# Altium schematic symbol library Schlib1.SchLib: 26 symbols
Pins are listed as number, name and electrical type; pins without a type are passive.

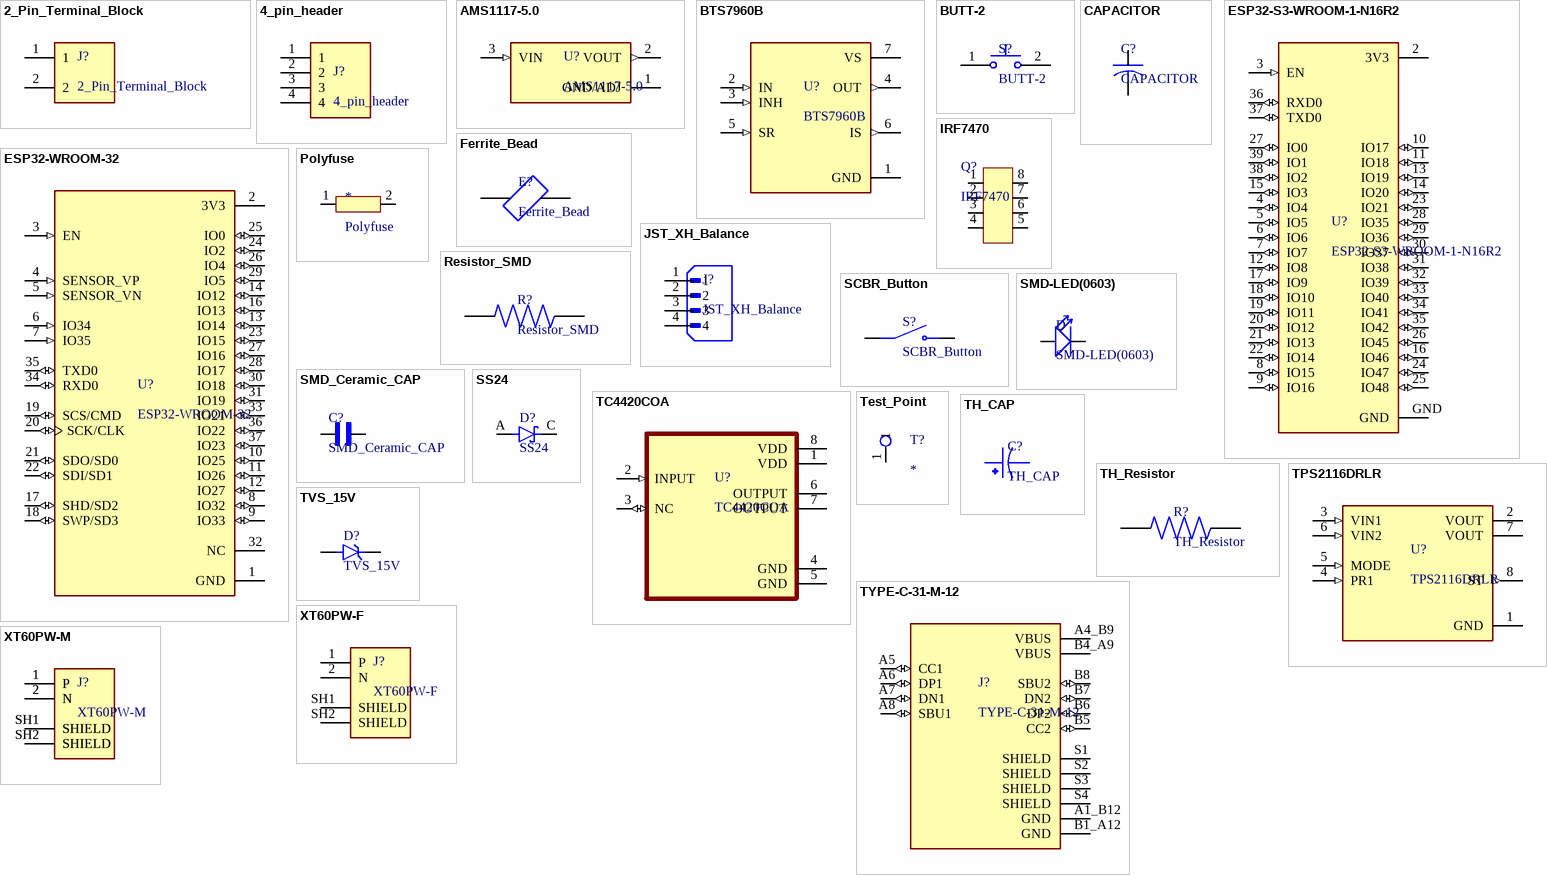
[diagram p0: symbols 2_Pin_Terminal_Block to XT60PW-M]

## 2_Pin_Terminal_Block
designator J?
2 Pin Terminal Block 5mm Pitch; MF: Handson Technology; MP: KF301-2P; SnapEDA_Link: https://www.snapeda.com/parts/KF301-2P/Handson+Technology/view-part/?ref=snap; Package: None; Value: *; Check_prices: https://www.snapeda.com/parts/KF301-2P/Handson+Technology/view-part/?ref=eda
footprint HANDSON_KF301-2P
footprint XT60PW-M
footprint 2_Pin_Terminal_Block
pins: 1, 2

## 4_pin_header
designator J?
MTA-100 HEADER - TIN, 04P MTA100 HDR ASSY SQ R/A POL | TE Connectivity 640455-4; SnapEDA_Link: https://www.snapeda.com/parts/640455-4/TE+Connectivity+AMP+Connectors/view-part/?ref=snap; Package: None; Value: *; MF: TE Connectivity; MP: 640455-4; Check_prices: https://www.snapeda.com/parts/640455-4/TE+Connectivity+AMP+Connectors/view-part/?ref=eda
footprint TE_640455-4
footprint 4_pin_header
footprint JST_XH_Balance
footprint JST_XH_Balance
footprint JST_XH_Balance
pins: 1, 2, 3, 4

## AMS1117-5.0
designator U?
1A LOW DROPOUT VOLTAGE REGULATOR; MF: ams; MP: AMS1117-5.0; Package: SOT-223 Seeed Technology; SnapEDA_Link: https://www.snapeda.com/parts/AMS1117-5.0/ams/view-part/?ref=snap; Check_prices: https://www.snapeda.com/parts/AMS1117-5.0/ams/view-part/?ref=eda; Availability: Not in stock; Value: *; Price: None
footprint SOT229P700X180-4N
footprint AMS1117-5.0
footprint AMS1117-5.0
pins: 1 GND/ADJ (power), 2 VOUT (out), 3 VIN (in)

## BTS7960B
designator U?
Half Bridge Driver DC Motors, General Purpose DMOS PG-TO263-7-1; MF: Infineon; SnapEDA_Link: https://www.snapeda.com/parts/BTS7960B/Infineon/view-part/?ref=snap; Package: TO-263 Infineon; Value: *; MP: BTS7960B; Check_prices: https://www.snapeda.com/parts/BTS7960B/Infineon/view-part/?ref=eda
footprint DPAK127P1490X440-8N
footprint BTS7960B
footprint BTS7960B
pins: 1 GND (power), 2 IN (in), 3 INH (in), 4 OUT (out), 5 SR (in), 6 IS (out), 7 VS (power)

## BUTT-2
designator S?
Tactile Switches MINI PUSH BUTTON SWITCH 2-PIN QTY. 4; MF: Gravitech; SnapEDA_Link: https://www.snapeda.com/parts/BUTT-2/Gravitech/view-part/?ref=snap; Package: None; Value: *; MP: BUTT-2; Check_prices: https://www.snapeda.com/parts/BUTT-2/Gravitech/view-part/?ref=eda
footprint SW_BUTT-2
footprint SW_BUTT-2
footprint SW_BUTT-2
pins: 1, 2

## CAPACITOR
designator C?
<B>CAPACITOR</B>, American symbol; Package: None; Price: None; Value: *; MP: CAPACITOR; Availability: Unavailable
footprint C0603K
footprint Capacitor_Bipolar-SMD
footprint Capacitor_Bipolar-SMD
footprint Capacitor_Bipolar-SMD
footprint Capacitor_Bipolar-SMD
pins: 1, 2

## ESP32-S3-WROOM-1-N16R2
designator U?
Bluetooth, WiFi 802.11b/g/n, Bluetooth v5.0 Transceiver Module 2.4GHz PCB Trace Surface Mount; MF: Espressif Systems; MP: ESP32S3WROOM1N16R2; SnapEDA_Link: https://www.snapeda.com/parts/ESP32S3WROOM1N16R2/Espressif+Systems/view-part/?ref=snap; Package: NON STANDARD Espressif Systems; Value: *; Check_prices: https://www.snapeda.com/parts/ESP32S3WROOM1N16R2/Espressif+Systems/view-part/?ref=eda
footprint XCVR_ESP32-S3-WROOM-1-N16R2
footprint ESP32-S3-WROOM-1-N16R2
footprint ESP32-S3-WROOM-1-N16R2
pins: 2 3V3 (power), 3 EN (in), 4 IO4 (io), 5 IO5 (io), 6 IO6 (io), 7 IO7 (io), 8 IO15 (io), 9 IO16 (io), 10 IO17 (io), 11 IO18 (io), 12 IO8 (io), 13 IO19 (io), 14 IO20 (io), 15 IO3 (io), 16 IO46 (io), 17 IO9 (io), 18 IO10 (io), 19 IO11 (io), 20 IO12 (io), 21 IO13 (io), 22 IO14 (io), 23 IO21 (io), 24 IO47 (io), 25 IO48 (io), 26 IO45 (io), 27 IO0 (io), 28 IO35 (io), 29 IO36 (io), 30 IO37 (io), 31 IO38 (io), 32 IO39 (io), 33 IO40 (io), 34 IO41 (io), 35 IO42 (io), 36 RXD0 (io), 37 TXD0 (io), 38 IO2 (io), 39 IO1 (io), GND (power)

## ESP32-WROOM-32
designator U?
Bluetooth, WiFi 802.11b/g/n, Bluetooth v4.2 +EDR, Class 1, 2 and 3 Transceiver Module 2.4GHz ~ 2.5GHz Antenna Not Included, U.FL Surface Mount; MF: Espressif Systems; Price: None; Availability: In Stock; MP: ESP32-WROOM-32; Package: Module Espressif Systems; SnapEDA_Link: https://www.snapeda.com/parts/ESP32-WROOM-32/Espressif+Systems/view-part/?ref=snap; Check_prices: https://www.snapeda.com/parts/ESP32-WROOM-32/Espressif+Systems/view-part/?ref=eda; Value: *; Purchase-URL: https://pricing.snapeda.com/search/part/ESP32-WROOM-32/?ref=eda
footprint MODULE_ESP32-WROOM-32
pins: 1 GND (power), 2 3V3 (power), 3 EN (in), 4 SENSOR_VP (in), 5 SENSOR_VN (in), 6 IO34 (in), 7 IO35 (in), 8 IO32 (io), 9 IO33 (io), 10 IO25 (io), 11 IO26 (io), 12 IO27 (io), 13 IO14 (io), 14 IO12 (io), 16 IO13 (io), 17 SHD/SD2 (io), 18 SWP/SD3 (io), 19 SCS/CMD (io), 20 SCK/CLK (io), 21 SDO/SD0 (io), 22 SDI/SD1 (io), 23 IO15 (io), 24 IO2 (io), 25 IO0 (io), 26 IO4 (io), 27 IO16 (io), 28 IO17 (io), 29 IO5 (io), 30 IO18 (io), 31 IO19 (io), 32 NC, 33 IO21 (io), 34 RXD0 (io), 35 TXD0 (io), 36 IO22 (io), 37 IO23 (io)

## Ferrite_Bead
designator E?
120 Ohms @ 100 MHz 1 Power, Signal Line Ferrite Bead 0603 (1608 Metric) 700mA 200mOhm; MF: Laird; MP: LI0603G121R-10; Purchase-URL: https://pricing.snapeda.com/search/part/LI0603G121R-10/?ref=eda; SnapEDA_Link: https://www.snapeda.com/parts/LI0603G121R-10/Laird/view-part/?ref=snap; Package: 0603 Laird; Price: None; Value: *; Availability: In Stock; Check_prices: https://www.snapeda.com/parts/LI0603G121R-10/Laird/view-part/?ref=eda
footprint FB_LI0603G121R-10
footprint Ferrite_bead
footprint Ferrite_bead
pins: 1, 2

## IRF7470
designator Q?
footprint IRF7470
footprint IRF7470
pins: 1 (power), 2 (power), 3 (power), 4 (power), 5 (power), 6 (power), 7 (power), 8 (power)

## JST_XH_Balance
designator J?
Connector Header Through Hole 4 position 0.098 (2.50mm); MF: JST Sales; MP: B4B-XH-A(LF)(SN); SnapEDA_Link: https://www.snapeda.com/parts/B4B-XH-A(LF)(SN)/JST+Sales+America+Inc./view-part/?ref=snap; Package: None; Value: *; Check_prices: https://www.snapeda.com/parts/B4B-XH-A(LF)(SN)/JST+Sales+America+Inc./view-part/?ref=eda
footprint JST_B4B-XH-A(LF)(SN)
footprint JST_XH_Balance
footprint JST_XH_Balance
pins: 1, 2, 3, 4

## Polyfuse
designator *
footprint Polyfuse
footprint Polyfuse
pins: 1, 2

## Resistor_SMD
designator R?
1 kOhms Â±0.5% 0.063W, 1/16W Chip Resistor 0603 (1608 Metric) - Thin Film; MF: Susumu; MP: RR0816P-102-D; SnapEDA_Link: https://www.snapeda.com/parts/RR0816P-102-D/Susumu/view-part/?ref=snap; Package: 1608 Susumu; Value: *; Check_prices: https://www.snapeda.com/parts/RR0816P-102-D/Susumu/view-part/?ref=eda
footprint RESC1608X50N
footprint Resistor_SMD
footprint Resistor_SMD
pins: 1, 2

## SCBR_Button
designator S?
SPST 50mA @ 12VDC Top Actuated Round Button 160gf SMD Tactile Switches RoHS; MP: TS-1187A-B-A-B; Value: *; Price: None; Package: None; Availability: Unavailable
footprint SW_TS-1187A-B-A-B
pins: A COM, B COM, C NO, D NO

## SMD-LED(0603)
designator D
Blue LED Indication - Discrete 2.8V 0603 _1608 Metric_; MF: Everlight; MP: 19-217/BHC-ZL1M2RY/3T; Value: *; SnapEDA_Link: https://www.snapeda.com/parts/19-217/BHC-ZL1M2RY/3T/Everlight%20Electronics%20Co%20Ltd/view-part/105869/?ref=snap; Price: None; Availability: Unavailable; Package: 0603 Everlight
footprint LED-0603
footprint LED-0603
footprint LED-0603
pins: NEG, POS

## SMD_Ceramic_CAP
designator C?
10000 pF Â±5% 16V Ceramic Capacitor X7R 0805 (2012 Metric); MF: AVX; MP: 0805YC103J4T2A; SnapEDA_Link: https://www.snapeda.com/parts/0805YC103J4T2A/AVX/view-part/?ref=snap; Package: 2012 AVX; Value: *; Check_prices: https://www.snapeda.com/parts/0805YC103J4T2A/AVX/view-part/?ref=eda
footprint CAPC2012X94N
footprint SMD_Ceramic_CAP
footprint SMD_Ceramic_CAP
footprint SMD_Ceramic_CAP
pins: 1, 2

## SS24
designator D?
Diode Schottky 40V 2A Surface Mount DO-214AA (SMB); MF: ON Semiconductor; Package: DO-214AA ON Semiconductor; Price: None; Value: *; SnapEDA_Link: https://www.snapeda.com/parts/SS24/Onsemi/view-part/?ref=snap; MP: SS24; Availability: In Stock; Check_prices: https://www.snapeda.com/parts/SS24/Onsemi/view-part/?ref=eda
footprint DIOM5336X265N
footprint SS24
footprint SS24
pins: A, C K

## TC4420COA
designator U?
Microchip TC4420COA,MOSFET Power Driver 6A,4.5 to 18V,Non-Inverting,8-Pin SOIC | Microchip Technology Inc. TC4420COA; SnapEDA_Link: https://www.snapeda.com/parts/TC4420COA/Microchip/view-part/?ref=snap; Package: SOIC-8 Microchip; Value: *; MF: Microchip Technology; MP: TC4420COA; Check_prices: https://www.snapeda.com/parts/TC4420COA/Microchip/view-part/?ref=eda
footprint SOIC127P599X175-8N
footprint TC4420COA
footprint TC4420COA
pins: 1 VDD (power), 2 INPUT (in), 3 NC (io), 4 GND (power), 5 GND (power), 6 OUTPUT (power), 7 OUTPUT (power), 8 VDD (power)

## Test_Point
designator T?  (no BOM)
footprint Test_Point
pins: 1

## TH_CAP
designator C?
4700 ÂµF 10 V Aluminum Electrolytic Capacitors Radial, Can 98.8mOhm @ 120Hz 2000 Hrs @ 85Â°C; MF: Illinois Capacitor; MP: 478CKS010M; SnapEDA_Link: https://www.snapeda.com/parts/478CKS010M/Illinois+Capacitor/view-part/?ref=snap; Package: Radial Illinois Capacitor; Value: *; Check_prices: https://www.snapeda.com/parts/478CKS010M/Illinois+Capacitor/view-part/?ref=eda
footprint CAPPRD500W60D1330H2700
pins: 1, 2

## TH_Resistor
designator R?
1.07 kOhms Â±1% 0.25W, 1/4W Through Hole Resistor Axial - Metal Film; MF: Yageo; MP: MFR-25FBF52-1K; SnapEDA_Link: https://www.snapeda.com/parts/MFR-25FBF52-1K/Yageo/view-part/?ref=snap; Package: RADIAL-2 YAGEO; Value: *; Check_prices: https://www.snapeda.com/parts/MFR-25FBF52-1K/Yageo/view-part/?ref=eda
footprint RESAD1100W55L680D260
pins: 1, 2

## TPS2116DRLR
designator U?
1.6-V to 5.5-V, 40-mâ„¦, 2.5-A, low-IQ, priority power multiplexer; MF: Texas Instruments; SnapEDA_Link: https://www.snapeda.com/parts/TPS2116DRLR/Texas+Instruments/view-part/?ref=snap; Package: None; Value: *; MP: TPS2116DRLR; Check_prices: https://www.snapeda.com/parts/TPS2116DRLR/Texas+Instruments/view-part/?ref=eda
footprint SOTFL50P160X60-8N
footprint TPS2116
footprint TPS2116
footprint TPS2116
pins: 1 GND (power), 2 VOUT (power), 3 VIN1 (in), 4 PR1 (in), 5 MODE (in), 6 VIN2 (in), 7 VOUT (power), 8 ST (out)

## TVS_15V
designator D?
15V Clamp 80A Ipp Tvs Diode Surface Mount SGP1610N2; MF: Semtech Corporation; MP: UCLAMP0571P.TNT; SnapEDA_Link: https://www.snapeda.com/parts/UCLAMP0571P.TNT/Semtech+Corporation/view-part/?ref=snap; Package: UDFN-2 Semtech; Value: *; Check_prices: https://www.snapeda.com/parts/UCLAMP0571P.TNT/Semtech+Corporation/view-part/?ref=eda
footprint DIO_UCLAMP0571P.TNT
footprint TVS_15V
footprint TVS_15V
pins: A, K

## TYPE-C-31-M-12
designator J?
USB Connectors 24 Receptacle 1 8.94*7.3mm RoHS; MF: HRO Electronics Co., Ltd.; SnapEDA_Link: https://www.snapeda.com/parts/TYPE-C-31-M-12/HRO+Electronics+Co.%252C+Ltd./view-part/?ref=snap; Package: Package; Value: *; MP: TYPE-C-31-M-12; Check_prices: https://www.snapeda.com/parts/TYPE-C-31-M-12/HRO+Electronics+Co.%252C+Ltd./view-part/?ref=eda
footprint HRO_TYPE-C-31-M-12
footprint HRO_TYPE-C-31-M-12
footprint HRO_TYPE-C-31-M-12
pins: A1_B12 GND (power), A4_B9 VBUS (power), A5 CC1 (io), A6 DP1 (io), A7 DN1 (io), A8 SBU1 (io), B1_A12 GND (power), B4_A9 VBUS (power), B5 CC2 (io), B6 DP2 (io), B7 DN2 (io), B8 SBU2 (io), S1 SHIELD, S2 SHIELD, S3 SHIELD, S4 SHIELD

## XT60PW-F
designator J?
Connector: DC supply; socket; female; XT60; 30A; 500V; PIN: 2; THT; MF: AMASS; SnapEDA_Link: https://www.snapeda.com/parts/XT60PW-F/AMASS/view-part/?ref=snap; Package: Package; Value: *; MP: XT60PW-F; Check_prices: https://www.snapeda.com/parts/XT60PW-F/AMASS/view-part/?ref=eda
footprint AMASS_XT60PW-F
footprint XT60PW-F
footprint XT60PW-F
pins: 1 P, 2 N, SH1 SHIELD, SH2 SHIELD

## XT60PW-M
designator J?
Socket, DC supply, male, PIN: 2; MF: AMASS; SnapEDA_Link: https://www.snapeda.com/parts/XT60PW-M/AMASS/view-part/?ref=snap; Package: Package; Value: *; MP: XT60PW-M; Check_prices: https://www.snapeda.com/parts/XT60PW-M/AMASS/view-part/?ref=eda
footprint AMASS_XT60PW-M
footprint XT60PW-M
footprint XT60PW-M
pins: 1 P, 1 P, 2 N, 2 N, SH1 SHIELD, SH1 SHIELD, SH2 SHIELD, SH2 SHIELD